# Altium footprint library footprints.PcbLib: 21 footprints (part 1 of 2)
Each footprint in its own frame and in the unit in brackets; x right, y up, seen from the top. Pads: shape width x height; smd on the part's side, far side on the other; paste and mask are expansions set on the pad; w line width, h text height; cw(c..) or ccw(c..) is an arc to the next point about the centre after c.
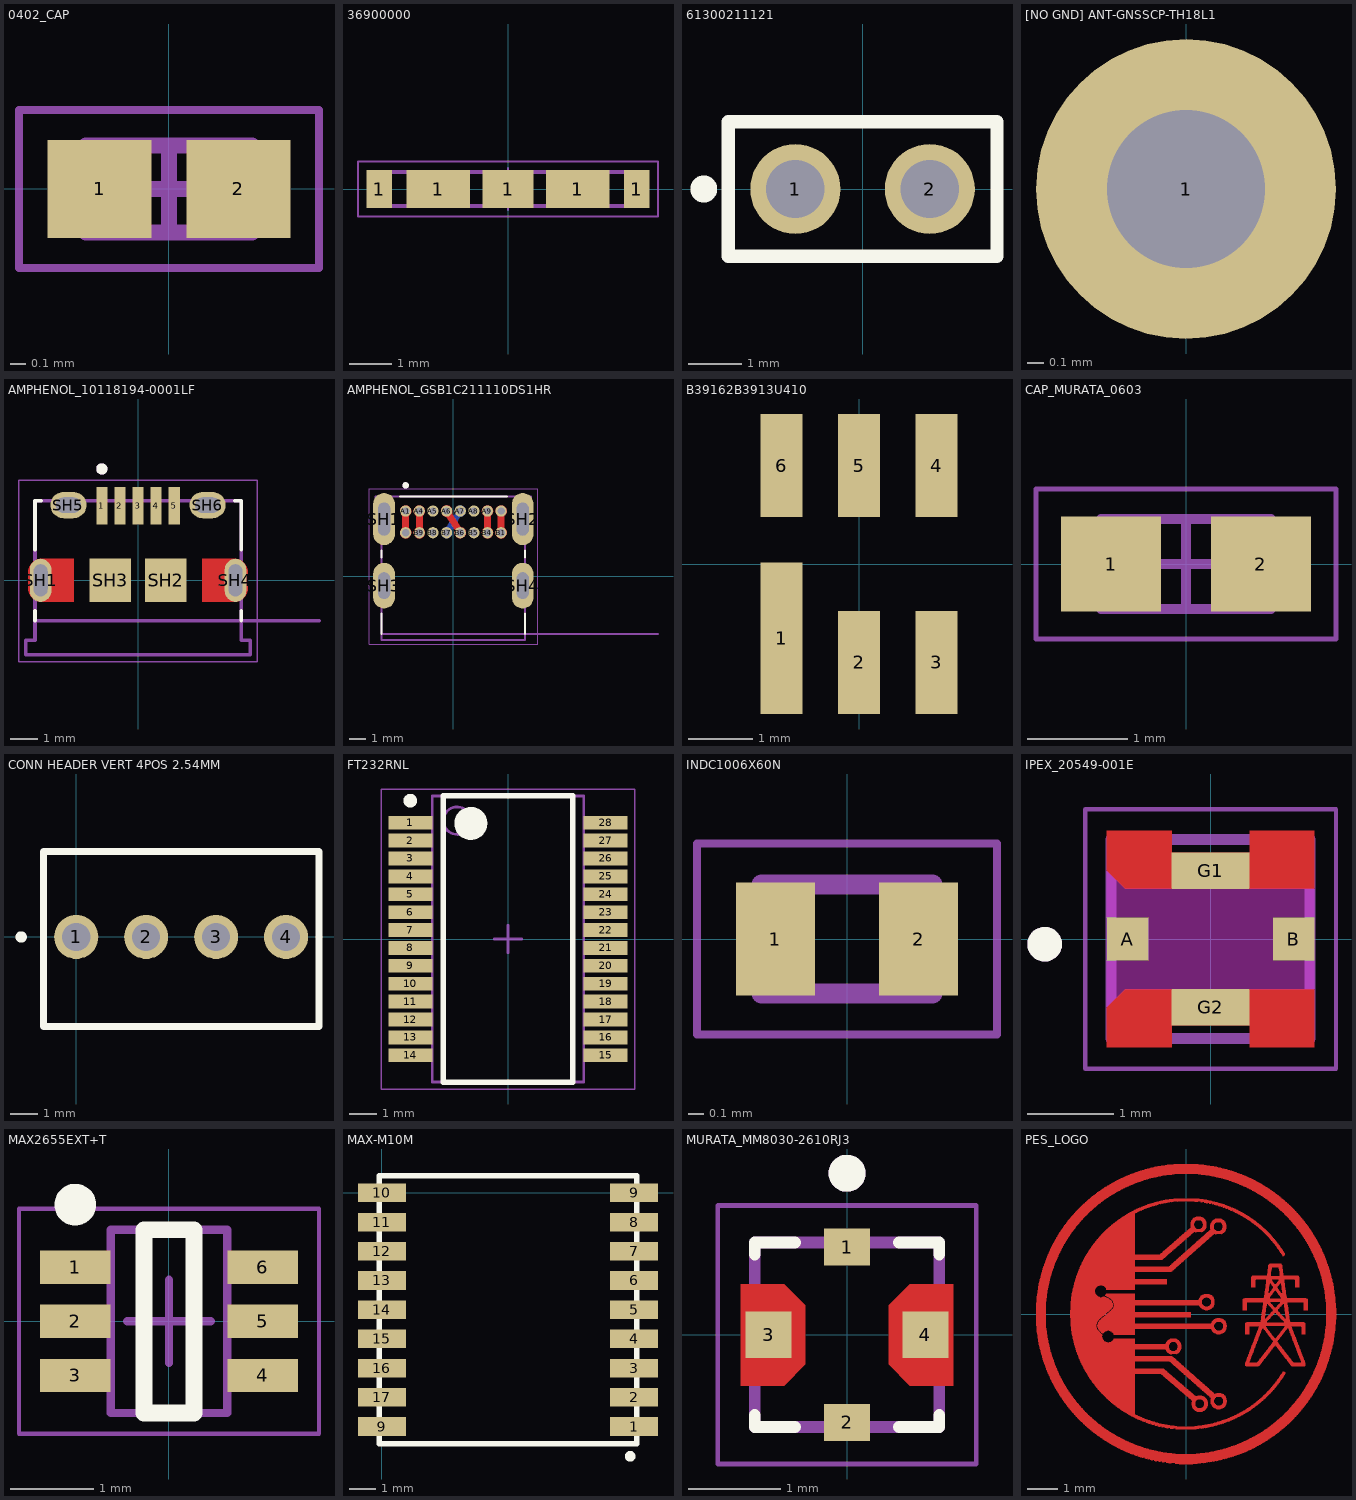
[diagram p0: the footprints below, top view; thin cyan lines are the x and y axes]

## 0402_CAP [mm]
height 0.55
pads (2):
  rect 0.66x0.62 smd: 1(-0.44,0) 2(0.44,0)
Top Courtyard:
  lines w0.05: -0.95,-0.5 0.95,-0.5 0.95,0.5 -0.95,0.5 -0.95,-0.5
  lines w0.1: -0.275,0 0.275,0 ; 0,-0.275 0,0.275
Mechanical 13:
  lines w0.1: -0.525,-0.275 0.525,-0.275 0.525,0.275 -0.525,0.275 -0.525,-0.275
3D body "0402 Res.step": height 0.55, standoff 0, extent -0.525,-0.275 0.525,0.275

## 36900000 [mm] "Shielding Cabinet Clip"
height 1.43
pads (5):
  rect 0.6x0.9 smd: 1(-3.05,0) 1(3.05,0)
  rect 1.5x0.9 smd: 1(-1.65,0) 1(1.65,0)
  rect 1.2x0.9 smd: 1(0,0)
Top Courtyard:
  lines w0.05: -3.55,-0.65 3.55,-0.65 3.55,0.65 -3.55,0.65 -3.55,-0.65
Top 3D Body:
  lines w0.1: -3.25,-0.4 3.25,-0.4 3.25,0.4 -3.25,0.4 -3.25,-0.4
Top Component Outline:
  lines w0.1: -3.25,-0.4 -3.25,0.4 3.25,0.4 3.25,-0.4 -3.25,-0.4
Top Component Center:
  lines w0.05: -0.5,0 0.5,0 ; 0,-0.5 0,0.5
Top Designator:
  text ".Designator" at -2.499,-0.167 h0.5
3D body "36900000.stp": height 1.28, standoff 0, extent -3.25,-0.41 3.25,0.41

## 61300211121 [mm]
pads (2):
  round 1.7 hole 1.1: 1(-1.27,0) 2(1.27,0)
Top Overlay:
  circle w0.255: c-3,0 r0.127
  lines w0.254: -2.54,-1.27 2.54,-1.27 2.54,1.27 -2.54,1.27 -2.54,-1.27
3D body "61300211121_Download_STP_61300211121_rev1.stp": height 8.54, standoff -3, extent -2.54,-1.27 2.54,1.27

## [NO GND] ANT-GNSSCP-TH18L1 [mm]
pads (1):
  round 1.8 hole 0.95: 1(0,-1.8)
3D body "ANT-GNSSCP-TH18L1.STEP": height 4.1, standoff -1.7, extent -9,-9 9,9

## AMPHENOL_10118194-0001LF [mm]
height 2.66
pads (11):
  rect 0.4x1.35 smd: 1(-1.3,2.675) 2(-0.65,2.675) 3(0,2.675) 4(0.65,2.675) 5(1.3,2.675)
  oval 0.775x1.55 hole 0.5 slot 1.15 at 90 deg mask+0: SH1(-3.5,0) SH4(3.5,0)
  rect 1.5x1.55 smd: SH2(1,0) SH3(-1,0)
  oval 1.3x0.95 hole 0.55 slot 0.9 at 0 deg: SH5(-2.5,2.7) SH6(2.5,2.7)
Top Layer:
  region: -2.3,-0.775 -3.445,-0.775 -3.471,-0.774 -3.497,-0.772 -3.523,-0.769 -3.549,-0.764 -3.574,-0.758 -3.6,-0.751 -3.624,-0.742 -3.648,-0.732 -3.672,-0.721 -3.695,-0.708 -3.717,-0.694 -3.739,-0.68 -3.76,-0.664 -3.78,-0.647 -3.799,-0.629 -3.817,-0.61 -3.834,-0.59 -3.85,-0.569 -3.864,-0.547 -3.878,-0.525 -3.891,-0.502 -3.902,-0.478 -3.912,-0.454 -3.921,-0.43 -3.928,-0.404 -3.934,-0.379 -3.939,-0.353 -3.942,-0.327 -3.944,-0.301 -3.945,-0.275 -3.945,0.275 -3.944,0.301 -3.942,0.327 -3.939,0.353 -3.934,0.379 -3.928,0.404 -3.921,0.43 -3.912,0.454 -3.902,0.478 -3.891,0.502 -3.878,0.525 -3.864,0.547 -3.85,0.569 -3.834,0.59 -3.817,0.61 -3.799,0.629 -3.78,0.647 -3.76,0.664 -3.739,0.68 -3.717,0.694 -3.695,0.708 -3.672,0.721 -3.648,0.732 -3.624,0.742 -3.6,0.751 -3.574,0.758 -3.549,0.764 -3.523,0.769 -3.497,0.772 -3.471,0.774 -3.445,0.775 -2.3,0.775
  region: 3.471,0.774 3.497,0.772 3.523,0.769 3.549,0.764 3.574,0.758 3.6,0.751 3.624,0.742 3.648,0.732 3.672,0.721 3.695,0.708 3.717,0.694 3.739,0.68 3.76,0.664 3.78,0.647 3.799,0.629 3.817,0.61 3.834,0.59 3.85,0.569 3.864,0.547 3.878,0.525 3.891,0.502 3.902,0.478 3.912,0.454 3.921,0.43 3.928,0.404 3.934,0.379 3.939,0.353 3.942,0.327 3.944,0.301 3.945,0.275 3.945,-0.275 3.944,-0.301 3.942,-0.327 3.939,-0.353 3.934,-0.379 3.928,-0.404 3.921,-0.43 3.912,-0.454 3.902,-0.478 3.891,-0.502 3.878,-0.525 3.864,-0.547 3.85,-0.569 3.834,-0.59 3.817,-0.61 3.799,-0.629 3.78,-0.647 3.76,-0.664 3.739,-0.68 3.717,-0.694 3.695,-0.708 3.672,-0.721 3.648,-0.732 3.624,-0.742 3.6,-0.751 3.574,-0.758 3.549,-0.764 3.523,-0.769 3.497,-0.772 3.471,-0.774 3.445,-0.775 2.3,-0.775 2.3,0.775 3.445,0.775
Top Overlay:
  circle w0.2: c-1.3,4 r0.1
  lines w0.127: -3.7,-1.45 -3.7,-1.1 ; -3.7,1.1 -3.7,2.85 -3.47,2.85 ; 3.47,2.85 3.7,2.85 3.7,1.1 ; 3.7,-1.45 3.7,-1.1
Top Paste:
  region: -2.3,-0.775 -3.445,-0.775 -3.471,-0.774 -3.497,-0.772 -3.523,-0.769 -3.549,-0.764 -3.574,-0.758 -3.6,-0.751 -3.624,-0.742 -3.648,-0.732 -3.672,-0.721 -3.695,-0.708 -3.717,-0.694 -3.739,-0.68 -3.76,-0.664 -3.78,-0.647 -3.799,-0.629 -3.817,-0.61 -3.834,-0.59 -3.85,-0.569 -3.864,-0.547 -3.878,-0.525 -3.891,-0.502 -3.902,-0.478 -3.912,-0.454 -3.921,-0.43 -3.928,-0.404 -3.934,-0.379 -3.939,-0.353 -3.942,-0.327 -3.944,-0.301 -3.945,-0.275 -3.945,0.275 -3.944,0.301 -3.942,0.327 -3.939,0.353 -3.934,0.379 -3.928,0.404 -3.921,0.43 -3.912,0.454 -3.902,0.478 -3.891,0.502 -3.878,0.525 -3.864,0.547 -3.85,0.569 -3.834,0.59 -3.817,0.61 -3.799,0.629 -3.78,0.647 -3.76,0.664 -3.739,0.68 -3.717,0.694 -3.695,0.708 -3.672,0.721 -3.648,0.732 -3.624,0.742 -3.6,0.751 -3.574,0.758 -3.549,0.764 -3.523,0.769 -3.497,0.772 -3.471,0.774 -3.445,0.775 -2.3,0.775
  region: 3.471,0.774 3.497,0.772 3.523,0.769 3.549,0.764 3.574,0.758 3.6,0.751 3.624,0.742 3.648,0.732 3.672,0.721 3.695,0.708 3.717,0.694 3.739,0.68 3.76,0.664 3.78,0.647 3.799,0.629 3.817,0.61 3.834,0.59 3.85,0.569 3.864,0.547 3.878,0.525 3.891,0.502 3.902,0.478 3.912,0.454 3.921,0.43 3.928,0.404 3.934,0.379 3.939,0.353 3.942,0.327 3.944,0.301 3.945,0.275 3.945,-0.275 3.944,-0.301 3.942,-0.327 3.939,-0.353 3.934,-0.379 3.928,-0.404 3.921,-0.43 3.912,-0.454 3.902,-0.478 3.891,-0.502 3.878,-0.525 3.864,-0.547 3.85,-0.569 3.834,-0.59 3.817,-0.61 3.799,-0.629 3.78,-0.647 3.76,-0.664 3.739,-0.68 3.717,-0.694 3.695,-0.708 3.672,-0.721 3.648,-0.732 3.624,-0.742 3.6,-0.751 3.574,-0.758 3.549,-0.764 3.523,-0.769 3.497,-0.772 3.471,-0.774 3.445,-0.775 2.3,-0.775 2.3,0.775 3.445,0.775
Top Solder:
  region: -2.2,-0.875 -3.445,-0.875 -3.476,-0.874 -3.508,-0.872 -3.539,-0.868 -3.57,-0.862 -3.6,-0.855 -3.63,-0.846 -3.66,-0.835 -3.689,-0.823 -3.717,-0.81 -3.745,-0.795 -3.772,-0.778 -3.798,-0.76 -3.823,-0.741 -3.846,-0.721 -3.869,-0.699 -3.891,-0.676 -3.911,-0.653 -3.93,-0.628 -3.948,-0.602 -3.965,-0.575 -3.98,-0.547 -3.993,-0.519 -4.005,-0.49 -4.016,-0.46 -4.025,-0.43 -4.032,-0.4 -4.038,-0.369 -4.042,-0.338 -4.044,-0.306 -4.045,-0.275 -4.045,0.275 -4.044,0.306 -4.042,0.338 -4.038,0.369 -4.032,0.4 -4.025,0.43 -4.016,0.46 -4.005,0.49 -3.993,0.519 -3.98,0.547 -3.965,0.575 -3.948,0.602 -3.93,0.628 -3.911,0.653 -3.891,0.676 -3.869,0.699 -3.846,0.721 -3.823,0.741 -3.798,0.76 -3.772,0.778 -3.745,0.795 -3.717,0.81 -3.689,0.823 -3.66,0.835 -3.63,0.846 -3.6,0.855 -3.57,0.862 -3.539,0.868 -3.508,0.872 -3.476,0.874 -3.445,0.875 -2.2,0.875
  region: 3.476,0.874 3.508,0.872 3.539,0.868 3.57,0.862 3.6,0.855 3.63,0.846 3.66,0.835 3.689,0.823 3.717,0.81 3.745,0.795 3.772,0.778 3.798,0.76 3.823,0.741 3.846,0.721 3.869,0.699 3.891,0.676 3.911,0.653 3.93,0.628 3.948,0.602 3.965,0.575 3.98,0.547 3.993,0.519 4.005,0.49 4.016,0.46 4.025,0.43 4.032,0.4 4.038,0.369 4.042,0.338 4.044,0.306 4.045,0.275 4.045,-0.275 4.044,-0.306 4.042,-0.338 4.038,-0.369 4.032,-0.4 4.025,-0.43 4.016,-0.46 4.005,-0.49 3.993,-0.519 3.98,-0.547 3.965,-0.575 3.948,-0.602 3.93,-0.628 3.911,-0.653 3.891,-0.676 3.869,-0.699 3.846,-0.721 3.823,-0.741 3.798,-0.76 3.772,-0.778 3.745,-0.795 3.717,-0.81 3.689,-0.823 3.66,-0.835 3.63,-0.846 3.6,-0.855 3.57,-0.862 3.539,-0.868 3.508,-0.872 3.476,-0.874 3.445,-0.875 2.2,-0.875 2.2,0.875 3.445,0.875
Bottom Solder:
  drawing of 2 lines, arcs and shapes, not listed
Mechanical 13:
  circle w0.2: c-1.3,4 r0.1
  lines w0.127: 6.5,-1.45 -3.7,-1.45 ; -3.7,-1.45 -3.7,-2.15 -4.025,-2.15 -4.025,-2.68 4.025,-2.68 4.025,-2.15 3.7,-2.15 3.7,2.85 -3.7,2.85 -3.7,-1.45
  text "PCB EDGE" at 4.25,-1.25 h0.81
Mechanical 15:
  lines w0.05: -4.275,-2.93 -4.275,3.6 4.275,3.6 4.275,-2.93 -4.275,-2.93
3D body "step_temp.STEP": height 2.67, standoff -0.6, extent -4.025,-2.68 4.025,2.85

## AMPHENOL_GSB1C211110DS1HR [mm]
height 3.35
pads (20):
  round 0.7 hole 0.45 mask+0.05: A1(-2.975,4.05) A4(-2.125,4.05) A5(-1.275,4.05) A6(-0.425,4.05) A7(0.425,4.05) A8(1.275,4.05) A9(2.125,4.05) A12(2.975,4.05) B1(2.975,2.7) B4(2.125,2.7) B5(1.275,2.7) B6(0.425,2.7) B7(-0.425,2.7) B8(-1.275,2.7) B9(-2.125,2.7) B12(-2.975,2.7)
  oval 1.35x3.25 hole 0.75 slot 2.05 at 90 deg: SH1(-4.32,3.55) SH2(4.32,3.55)
  oval 1.35x2.85 hole 0.75 slot 1.65 at 90 deg: SH3(-4.32,-0.6) SH4(4.32,-0.6)
Top Layer:
  region: -2.916,4.395 -2.859,4.38 -2.805,4.356 -2.756,4.323 -2.714,4.283 -2.678,4.235 -2.651,4.183 -2.634,4.127 -2.625,4.068 -2.627,4.009 -2.639,3.952 -2.66,3.897 -2.691,3.846 -2.729,3.801 -2.775,3.763 -2.775,2.987 -2.729,2.949 -2.691,2.904 -2.66,2.853 -2.639,2.798 -2.627,2.741 -2.625,2.682 -2.634,2.623 -2.651,2.567 -2.678,2.515 -2.714,2.467 -2.756,2.427 -2.805,2.394 -2.859,2.37 -2.916,2.355 -2.975,2.35 -3.034,2.355 -3.091,2.37 -3.145,2.394 -3.194,2.427 -3.236,2.467 -3.272,2.515 -3.299,2.567 -3.316,2.623 -3.325,2.682 -3.323,2.741 -3.311,2.798 -3.29,2.853 -3.259,2.904 -3.221,2.949 -3.175,2.987 -3.175,3.763 -3.221,3.801 -3.259,3.846 -3.29,3.897 -3.311,3.952 -3.323,4.009 -3.325,4.068 -3.316,4.127 -3.299,4.183 -3.272,4.235 -3.236,4.283 -3.194,4.323 -3.145,4.356 -3.091,4.38 -3.034,4.395 -2.975,4.4
  region: -2.066,4.395 -2.009,4.38 -1.955,4.356 -1.906,4.323 -1.864,4.283 -1.828,4.235 -1.801,4.183 -1.784,4.127 -1.775,4.068 -1.777,4.009 -1.789,3.952 -1.81,3.897 -1.841,3.846 -1.879,3.801 -1.925,3.763 -1.925,2.987 -1.879,2.949 -1.841,2.904 -1.81,2.853 -1.789,2.798 -1.777,2.741 -1.775,2.682 -1.784,2.623 -1.801,2.567 -1.828,2.515 -1.864,2.467 -1.906,2.427 -1.955,2.394 -2.009,2.37 -2.066,2.355 -2.125,2.35 -2.184,2.355 -2.241,2.37 -2.295,2.394 -2.344,2.427 -2.386,2.467 -2.422,2.515 -2.449,2.567 -2.466,2.623 -2.475,2.682 -2.473,2.741 -2.461,2.798 -2.44,2.853 -2.409,2.904 -2.371,2.949 -2.325,2.987 -2.325,3.763 -2.371,3.801 -2.409,3.846 -2.44,3.897 -2.461,3.952 -2.473,4.009 -2.475,4.068 -2.466,4.127 -2.449,4.183 -2.422,4.235 -2.386,4.283 -2.344,4.323 -2.295,4.356 -2.241,4.38 -2.184,4.395 -2.125,4.4
  region: 2.184,4.395 2.241,4.38 2.295,4.356 2.344,4.323 2.386,4.283 2.422,4.235 2.449,4.183 2.466,4.127 2.475,4.068 2.473,4.009 2.461,3.952 2.44,3.897 2.409,3.846 2.371,3.801 2.325,3.763 2.325,2.987 2.371,2.949 2.409,2.904 2.44,2.853 2.461,2.798 2.473,2.741 2.475,2.682 2.466,2.623 2.449,2.567 2.422,2.515 2.386,2.467 2.344,2.427 2.295,2.394 2.241,2.37 2.184,2.355 2.125,2.35 2.066,2.355 2.009,2.37 1.955,2.394 1.906,2.427 1.864,2.467 1.828,2.515 1.801,2.567 1.784,2.623 1.775,2.682 1.777,2.741 1.789,2.798 1.81,2.853 1.841,2.904 1.879,2.949 1.925,2.987 1.925,3.763 1.879,3.801 1.841,3.846 1.81,3.897 1.789,3.952 1.777,4.009 1.775,4.068 1.784,4.127 1.801,4.183 1.828,4.235 1.864,4.283 1.906,4.323 1.955,4.356 2.009,4.38 2.066,4.395 2.125,4.4
  region: 3.034,4.395 3.091,4.38 3.145,4.356 3.194,4.323 3.236,4.283 3.272,4.235 3.299,4.183 3.316,4.127 3.325,4.068 3.323,4.009 3.311,3.952 3.29,3.897 3.259,3.846 3.221,3.801 3.175,3.763 3.175,2.987 3.221,2.949 3.259,2.904 3.29,2.853 3.311,2.798 3.323,2.741 3.325,2.682 3.316,2.623 3.299,2.567 3.272,2.515 3.236,2.467 3.194,2.427 3.145,2.394 3.091,2.37 3.034,2.355 2.975,2.35 2.916,2.355 2.859,2.37 2.805,2.394 2.756,2.427 2.714,2.467 2.678,2.515 2.651,2.567 2.634,2.623 2.625,2.682 2.627,2.741 2.639,2.798 2.66,2.853 2.691,2.904 2.729,2.949 2.775,2.987 2.775,3.763 2.729,3.801 2.691,3.846 2.66,3.897 2.639,3.952 2.627,4.009 2.625,4.068 2.634,4.127 2.651,4.183 2.678,4.235 2.714,4.283 2.756,4.323 2.805,4.356 2.859,4.38 2.916,4.395 2.975,4.4
  region: -0.387,4.398 -0.329,4.386 -0.273,4.365 -0.222,4.335 -0.177,4.297 -0.139,4.252 -0.109,4.201 -0.088,4.145 -0.077,4.087 -0.076,4.028 -0.084,3.969 -0.102,3.915 0.447,3.05 0.502,3.042 0.559,3.024 0.612,2.997 0.659,2.961 0.7,2.918 0.732,2.869 0.756,2.815 0.771,2.758 0.776,2.699 0.77,2.64 0.755,2.582 0.731,2.528 0.697,2.479 0.656,2.437 0.608,2.402 0.556,2.375 0.499,2.358 0.44,2.35 0.381,2.353 0.323,2.365 0.268,2.387 0.218,2.418 0.173,2.457 0.136,2.503 0.107,2.555 0.087,2.611 0.077,2.669 0.076,2.728 0.086,2.787 0.105,2.841 0.105,2.842 -0.44,3.7 -0.496,3.707 -0.553,3.724 -0.606,3.75 -0.654,3.785 -0.695,3.827 -0.729,3.876 -0.754,3.929 -0.77,3.987 -0.775,4.046 -0.771,4.105 -0.757,4.162 -0.733,4.216 -0.701,4.266 -0.66,4.309 -0.613,4.345 -0.561,4.373 -0.505,4.391 -0.446,4.399
Bottom Layer:
  region: 0.505,4.391 0.561,4.373 0.613,4.345 0.66,4.309 0.701,4.266 0.733,4.216 0.757,4.162 0.771,4.105 0.775,4.046 0.77,3.987 0.754,3.929 0.729,3.876 0.695,3.827 0.654,3.785 0.606,3.75 0.553,3.724 0.496,3.707 0.44,3.7 -0.105,2.842 -0.105,2.841 -0.086,2.787 -0.076,2.728 -0.077,2.669 -0.087,2.611 -0.107,2.555 -0.136,2.503 -0.173,2.457 -0.218,2.418 -0.268,2.387 -0.323,2.365 -0.381,2.353 -0.44,2.35 -0.499,2.358 -0.556,2.375 -0.608,2.402 -0.656,2.437 -0.697,2.479 -0.731,2.528 -0.755,2.582 -0.77,2.64 -0.776,2.699 -0.771,2.758 -0.756,2.815 -0.732,2.869 -0.7,2.918 -0.659,2.961 -0.612,2.997 -0.559,3.024 -0.502,3.042 -0.447,3.05 0.102,3.915 0.084,3.969 0.076,4.028 0.077,4.087 0.088,4.145 0.109,4.201 0.139,4.252 0.177,4.297 0.222,4.335 0.273,4.365 0.329,4.386 0.387,4.398 0.446,4.399
Top Overlay:
  circle w0.2: c-2.975,5.65 r0.1
  lines w0.127: -4.47,-3.6 -4.47,-2.345 ; -4.47,1.145 -4.47,1.605 ; -3.325,4.97 3.325,4.97 ; 4.47,-3.6 4.47,-2.345 ; 4.47,1.145 4.47,1.605
Mechanical 13:
  circle w0.2: c-2.975,5.65 r0.1
  lines w0.127: 12.75,-3.6 -4.47,-3.6 ; -4.47,-3.6 -4.47,-4 4.47,-4 4.47,2.673 4.845,2.673 4.845,4.97 -4.845,4.97 -4.845,2.673 -4.47,2.673 -4.47,-3.6
  text "PCB EDGE" at 5.5,-3.35 h1.02
Mechanical 15:
  lines w0.05: -5.245,-4.25 5.245,-4.25 5.245,5.425 -5.245,5.425 -5.245,-4.25
3D body "GSB1C211110DS1HR.step": height 3.37, standoff -0.99, extent -4.836,-4.014 4.858,4.956

## B39162B3913U410 [mm]
pads (6):
  rect 0.65x2.35 smd: 1(-1.2,-1.15)
  rect 0.65x1.6 smd: 2(0,-1.525) 3(1.2,-1.525) 4(1.2,1.525) 5(0,1.525) 6(-1.2,1.525)
3D body "B39162B3913U410.step": height 1.1, standoff 0, extent -1.5,-1.5 1.5,1.5

## CAP_MURATA_0603 [mm]
height 0.9
pads (2):
  rect 1x0.95 smd: 1(-0.75,0) 2(0.75,0)
Mechanical 13:
  lines w0.1: -0.85,-0.45 -0.85,0.45 0.85,0.45 0.85,-0.45 -0.85,-0.45
Mechanical 15:
  lines w0.05: -1.5,-0.75 -1.5,0.75 1.5,0.75 1.5,-0.75 -1.5,-0.75
  lines w0.1: -0.45,0 0.45,0 ; 0,-0.45 0,0.45
3D body "GRM188R61A105KA61.step": height 0.9, standoff 0, extent -0.85,-0.45 0.85,0.45

## CONN HEADER VERT 4POS 2.54MM [mm]
pads (4):
  round 1.6 hole 1.02: 1(0,0) 2(2.54,0) 3(5.08,0) 4(7.62,0)
Top Overlay:
  circle w0.254: c-2,0 r0.079
  lines w0.254: -1.195,-3.25 8.815,-3.25 8.815,3.1 -1.195,3.1 -1.195,-3.25
3D body "022232041.stp": height 10.67, standoff -3.55, extent -1.194,-3.251 8.814,3.099

## FT232RNL [mm]
height 2
pads (28):
  rect 1.6x0.5 smd: 1(-3.55,4.225) 2(-3.55,3.575) 3(-3.55,2.925) 4(-3.55,2.275) 5(-3.55,1.625) 6(-3.55,0.975) 7(-3.55,0.325) 8(-3.55,-0.325) 9(-3.55,-0.975) 10(-3.55,-1.625) 11(-3.55,-2.275) 12(-3.55,-2.925) 13(-3.55,-3.575) 14(-3.55,-4.225) 15(3.55,-4.225) 16(3.55,-3.575) 17(3.55,-2.925) 18(3.55,-2.275) 19(3.55,-1.625) 20(3.55,-0.975) 21(3.55,-0.325) 22(3.55,0.325) 23(3.55,0.975) 24(3.55,1.625) 25(3.55,2.275) 26(3.55,2.925) 27(3.55,3.575) 28(3.55,4.225)
Top Overlay:
  circle w0.6: c-1.35,4.2 r0.3
  circle w0.25: c-3.55,5.025 r0.125
  lines w0.2: -2.35,-5.2 2.35,-5.2 2.35,5.2 -2.35,5.2 -2.35,-5.2
Mechanical 13:
  circle w0.1: c-1.85,4.3 r0.5
  lines w0.1: -2.75,-5.2 2.75,-5.2 2.75,5.2 -2.75,5.2 -2.75,-5.2
Mechanical 15:
  lines w0.05: -4.6,-5.45 4.6,-5.45 4.6,5.45 -4.6,5.45 -4.6,-5.45
  lines w0.1: -0.5,0 0.5,0 ; 0,-0.5 0,0.5
3D body "FT232RNL.step": height 2, standoff 0, extent -3.9,-5.2 3.9,5.2

## INDC1006X60N [mm]
pads (2):
  rect 0.51x0.73 smd: 1(-0.46,0) 2(0.46,0)
Mechanical 13:
  lines w0.127: -0.55,-0.35 0.55,-0.35 0.55,0.35 -0.55,0.35 -0.55,-0.35
Mechanical 15:
  lines w0.05: -0.965,-0.615 0.965,-0.615 0.965,0.615 -0.965,0.615 -0.965,-0.615
3D body "LQW15AN3N6C10D.step": height 0.6, standoff 0, extent -0.5,-0.3 0.5,0.3

## IPEX_20549-001E [mm]
pads (4):
  rect 0.48x0.5 smd paste-1: A(-0.96,0) B(0.96,0)
  rect 0.9x0.42 smd paste-1 mask+0: G1(0,0.79) G2(0,-0.79)
Top Layer:
  region: 1.2,0.58 -0.987,0.58 -1.2,0.792 -1.2,1.25 -0.45,1.25 -0.45,1 0.45,1 0.45,1.25 1.2,1.25
  region: 1.2,-1.25 0.45,-1.25 0.45,-1 -0.45,-1 -0.45,-1.25 -1.2,-1.25 -1.2,-0.792 -0.987,-0.58 1.2,-0.58
Top Overlay:
  circle w0.2: c-1.92,-0.06 r0.1
Top Paste:
  region: 0.9,-1.2 0.5,-1.2 0.5,-0.8 0.9,-0.8
  region: -0.5,-1.2 -0.9,-1.2 -0.9,-0.8 -0.5,-0.8
  region: 0.25,-0.95 -0.25,-0.95 -0.25,-0.65 0.25,-0.65
  region: 0.25,0.65 -0.25,0.65 -0.25,0.95 0.25,0.95
  region: 1.15,-0.2 0.85,-0.2 0.85,0.2 1.15,0.2
  region: 0.9,0.8 0.5,0.8 0.5,1.2 0.9,1.2
  region: -0.5,0.8 -0.9,0.8 -0.9,1.2 -0.5,1.2
  region: -0.85,-0.2 -1.15,-0.2 -1.15,0.2 -0.85,0.2
Top Solder:
  region: 1.2,-1.25 0.45,-1.25 0.45,-1 -0.45,-1 -0.45,-1.25 -1.2,-1.25 -1.2,-0.792 -0.987,-0.58 1.2,-0.58
  region: 1.2,0.58 -0.987,0.58 -1.2,0.792 -1.2,1.25 -0.45,1.25 -0.45,1 0.45,1 0.45,1.25 1.2,1.25
Keep-Out Layer:
  region: -0.99,0.58 1.2,0.58 1.2,0.25 0.72,0.25 0.72,-0.25 1.2,-0.25 1.2,-0.58 -0.99,-0.58 -1.2,-0.79 -1.2,-0.25 -0.72,-0.25 -0.72,0.25 -1.2,0.25 -1.2,0.79
  region: -0.99,0.58 1.2,0.58 1.2,0.25 0.72,0.25 0.72,-0.25 1.2,-0.25 1.2,-0.58 -0.99,-0.58 -1.2,-0.79 -1.2,-0.25 -0.72,-0.25 -0.72,0.25 -1.2,0.25 -1.2,0.79
Mechanical 13:
  circle w0.2: c-1.92,-0.06 r0.1
  lines w0.127: -1.15,-1.15 1.15,-1.15 1.15,1.15 -1.15,1.15 -1.15,-1.15
Mechanical 15:
  lines w0.05: -1.45,-1.5 -1.45,1.5 1.45,1.5 1.45,-1.5 -1.45,-1.5
3D body "step_temp.STEP": height 1.35, standoff 0, extent -1.15,-1.15 1.15,1.15

## MAX2655EXT+T [mm] "TSOP, 6-Leads, Body 2.00x1.25mm, Pitch 0.65mm, IPC Medium Density"
height 1.1
pads (6):
  rect 0.85x0.4 smd: 1(-1.125,0.65) 2(-1.125,0) 3(-1.125,-0.65) 4(1.125,-0.65) 5(1.125,0) 6(1.125,0.65)
Top Overlay:
  circle w0.25: c-1.125,1.4 r0.125
  lines w0.2: -0.3,-1.1 0.3,-1.1 0.3,1.1 -0.3,1.1 -0.3,-1.1
Mechanical 13:
  lines w0.1: -0.7,-1.1 0.7,-1.1 0.7,1.1 -0.7,1.1 -0.7,-1.1
Mechanical 15:
  lines w0.05: -1.8,-1.35 1.8,-1.35 1.8,1.35 -1.8,1.35 -1.8,-1.35
  lines w0.1: -0.5,0 0.5,0 ; 0,-0.5 0,0.5
3D body "MAX2655EXT+T.step": height 1.1, standoff 0, extent -1.05,-1.1 1.05,1.1

## MAX-M10M [mm]
pads (18):
  rect 1.8x0.7 smd: 1(9.5,-8.8) 2(9.5,-7.7) 3(9.5,-6.6) 4(9.5,-5.5) 5(9.5,-4.4) 6(9.5,-3.3) 7(9.5,-2.2) 8(9.5,-1.1) 9(0,-8.8) 9(9.5,0) 10(0,0) 11(0,-1.1) 12(0,-2.2) 13(0,-3.3) 14(0,-4.4) 15(0,-5.5) 16(0,-6.6) 17(0,-7.7)
Top Overlay:
  circle w0.2: c9.35,-9.925 r0.1
  lines w0.2: -0.1,-9.45 -0.1,0.65 9.6,0.65 9.6,-9.45 -0.1,-9.45
3D body "MAX-M10M-00B.step": height 2.7, standoff 0, extent -0.1,-9.75 9.6,0.65

## MURATA_MM8030-2610RJ3 [mm]
pads (4):
  rect 0.5x0.4 smd paste-1 mask+0: 1(0,0.95) 2(0,-0.95)
  rect 0.5x0.5 smd paste-1 mask+0: 3(-0.85,0) 4(0.85,0)
Top Layer:
  region: -0.45,0.32 -0.45,-0.32 -0.68,-0.55 -1.15,-0.55 -1.15,0.55 -0.68,0.55
  region: 1.15,-0.55 0.68,-0.55 0.45,-0.32 0.45,0.32 0.68,0.55 1.15,0.55
Top Overlay:
  circle w0.2: c0,1.75 r0.1
  lines w0.127: -1,-0.869 -1,-1 -0.564,-1 ; -1,0.869 -1,1 -0.564,1 ; 0.564,-1 1,-1 1,-0.869 ; 0.564,1 1,1 1,0.869
Top Paste:
  region: -0.59,0.41 -0.59,-0.41 -0.68,-0.5 -1.1,-0.5 -1.1,0.5 -0.68,0.5
  region: 1.1,-0.5 0.68,-0.5 0.59,-0.41 0.59,0.41 0.68,0.5 1.1,0.5
  region: 0.165,-1.15 -0.165,-1.15 -0.165,-0.82 0.165,-0.82
  region: 0.165,0.82 -0.165,0.82 -0.165,1.15 0.165,1.15
Top Solder:
  region: -0.45,0.32 -0.45,-0.32 -0.68,-0.55 -1.15,-0.55 -1.15,0.55 -0.68,0.55
  region: 1.15,-0.55 0.68,-0.55 0.45,-0.32 0.45,0.32 0.68,0.55 1.15,0.55
  region: 0.25,-1.15 -0.25,-1.15 -0.25,-0.75 0.25,-0.75
  region: 0.25,0.75 -0.25,0.75 -0.25,1.15 0.25,1.15
Mechanical 13:
  circle w0.2: c0,1.75 r0.1
  lines w0.127: -1,-1 1,-1 1,1 -1,1 -1,-1
Mechanical 15:
  lines w0.05: -1.4,-1.4 1.4,-1.4 1.4,1.4 -1.4,1.4 -1.4,-1.4
3D body "MM8030-2610RJ3.step": height 0.9, standoff 0, extent -1,-1.05 1,1.05

## PES_LOGO [mm]
Top Layer:
  drawing of 4 lines, arcs and shapes, not listed